# Altium footprint library PcbLib1.PcbLib: 12 footprints
Each footprint in its own frame and in the unit in brackets; x right, y up, seen from the top. Pads: shape width x height; smd on the part's side, far side on the other; paste and mask are expansions set on the pad; w line width, h text height; cw(c..) or ccw(c..) is an arc to the next point about the centre after c.
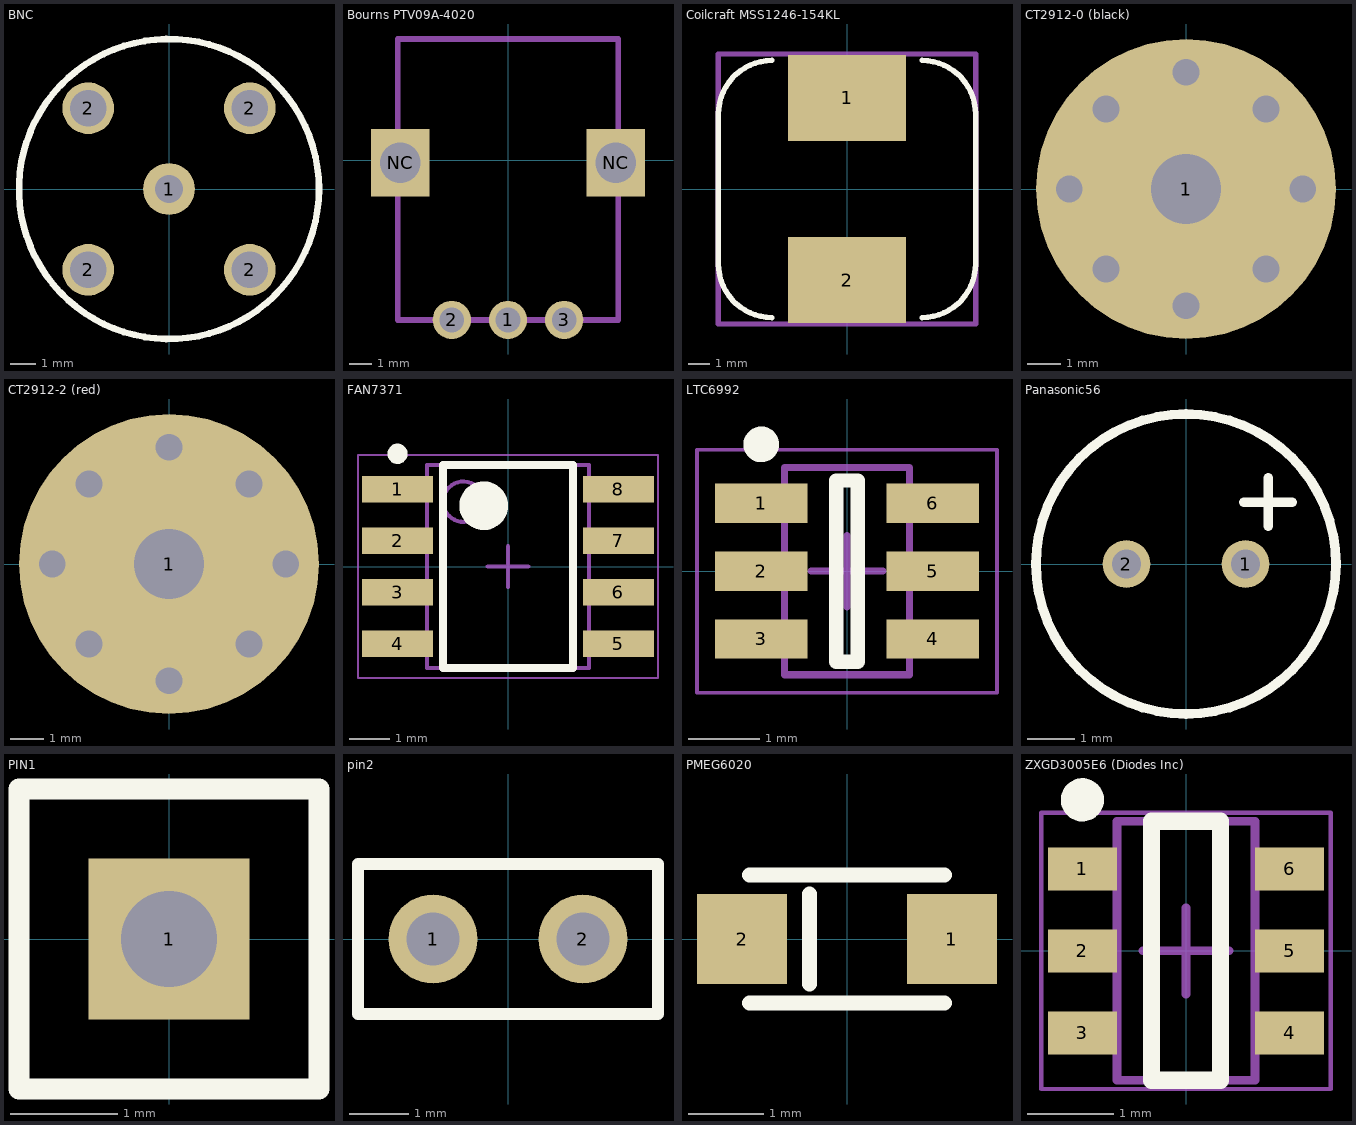
[diagram p0: the footprints below, top view; thin cyan lines are the x and y axes]

## BNC [mm] "BNC RS Pro female connector"
height 12
pads (5):
  round 2 hole 1.1: 1(0,0)
  round 2 hole 1.4: 2(-3.125,-3.125) 2(-3.125,3.125) 2(3.125,-3.125) 2(3.125,3.125)
Top Overlay:
  circle w0.254: c0,0 r5.8
3D body "bnc-generic-2.stp": height 11.5, standoff -3.99, extent -4.508,-3.772 4.509,3.772

## Bourns PTV09A-4020 [mm] "Potentiometer"
pads (5):
  round 1.7 hole 1.1: 1(0,-7.1) 2(-2.5,-7.1) 3(2.5,-7.1)
  rect 2.6x3 hole 1.8 square: NC(-4.8,-0.1) NC(4.8,-0.1)
Mechanical 15:
  lines w0.254: -4.9,-7.1 4.9,-7.1 4.9,5.4 -4.9,5.4 -4.9,-7.1
3D body "Bourns ptv09a-4x15f-xxxx.stp": height 15, standoff -3.99, extent -5.7,-7.15 5.7,5.5

## Coilcraft MSS1246-154KL [mm] "150uH low DCR inductor"
height 4.6
pads (2):
  rect 5.5x4 smd: 1(0,4.25) 2(0,-4.25)
Top Overlay:
  lines w0.254: -3.5,-6 cw(c-3.5,-3.5) -6,-3.5 -6,3.5 cw(c-3.5,3.5) -3.5,6 ; 3.5,-6 ccw(c3.5,-3.5) 6,-3.5 6,3.5 ccw(c3.5,3.5) 3.5,6
Mechanical 15:
  lines w0.254: -6,-6.3 6,-6.3 6,6.3 -6,6.3 -6,-6.3
3D body "Coilcraft-MSS1246.step": height 4.6, standoff -0.2, extent -6.1,-6.1 6.1,6.1

## CT2912-0 (black) [mm] "Banana Jack - Cal Test CT2912-0"
pads (1):
  round 9 hole 2.1: 1(0,0)
via 0,0 diameter 3.2 hole 2.1
via 0,3.5 diameter 1.2 hole 0.8
via -3.5,0 diameter 1.2 hole 0.8
via 0,-3.5 diameter 1.2 hole 0.8
via 3.5,0 diameter 1.2 hole 0.8
via -2.4,2.4 diameter 1.2 hole 0.8
via -2.4,-2.4 diameter 1.2 hole 0.8
via 2.4,-2.4 diameter 1.2 hole 0.8
via 2.4,2.4 diameter 1.2 hole 0.8
3D body "CT2912-0.STEP": height 24, standoff -11, extent -7.105,-7.105 7.105,7.105

## CT2912-2 (red) [mm] "Banana Jack - Cal Test CT2912-2"
pads (1):
  round 9 hole 2.1: 1(0,0)
via 2.4,2.4 diameter 1.2 hole 0.8
via 2.4,-2.4 diameter 1.2 hole 0.8
via -2.4,-2.4 diameter 1.2 hole 0.8
via -2.4,2.4 diameter 1.2 hole 0.8
via 3.5,0 diameter 1.2 hole 0.8
via 0,-3.5 diameter 1.2 hole 0.8
via -3.5,0 diameter 1.2 hole 0.8
via 0,3.5 diameter 1.2 hole 0.8
via 0,0 diameter 3.2 hole 2.1
3D body "CT2912-2.STEP": height 24, standoff -11, extent -7.105,-7.105 7.105,7.105

## FAN7371 [mm] "SOP, 8-Leads, Body 4.90x3.90mm, Pitch 1.27mm, IPC Medium Density"
height 1.75
pads (8):
  rect 1.75x0.65 smd: 1(-2.725,1.905) 2(-2.725,0.635) 3(-2.725,-0.635) 4(-2.725,-1.905) 5(2.725,-1.905) 6(2.725,-0.635) 7(2.725,0.635) 8(2.725,1.905)
Top Overlay:
  circle w0.6: c-0.6,1.5 r0.3
  circle w0.25: c-2.725,2.78 r0.125
  lines w0.2: -1.6,-2.5 1.6,-2.5 1.6,2.5 -1.6,2.5 -1.6,-2.5
Mechanical 13:
  circle w0.1: c-1.1,1.6 r0.5
  lines w0.1: -2,-2.5 2,-2.5 2,2.5 -2,2.5 -2,-2.5
Mechanical 15:
  lines w0.05: -3.7,-2.75 3.7,-2.75 3.7,2.75 -3.7,2.75 -3.7,-2.75
  lines w0.1: -0.5,0 0.5,0 ; 0,-0.5 0,0.5
3D body "FAN7371.step": height 1.75, standoff 0, extent -3,-2.5 3,2.5

## LTC6992 [mm] "TSOT23-N medium density"
pads (6):
  rect 1.3x0.55 smd: 1(-1.2,0.95) 2(-1.2,0) 3(-1.2,-0.95) 4(1.2,-0.95) 5(1.2,0) 6(1.2,0.95)
Top Overlay:
  circle w0.25: c-1.2,1.775 r0.125
  lines w0.2: -0.15,-1.27 0.15,-1.27 0.15,1.27 -0.15,1.27 -0.15,-1.27
Mechanical 13:
  lines w0.1: -0.875,-1.45 -0.875,1.45 0.875,1.45 0.875,-1.45 -0.875,-1.45
Mechanical 15:
  lines w0.05: -2.1,-1.7 -2.1,1.7 2.1,1.7 2.1,-1.7 -2.1,-1.7
  lines w0.1: -0.5,0 0.5,0 ; 0,-0.5 0,0.5
3D body: height 1, standoff 0.01, extent -0.875,-1.45 0.875,1.45

## Panasonic56 [mm] "Panasonic EEU-FM1H560"
height 11
pads (2):
  round 1 hole 0.6: 1(1.25,0) 2(-1.25,0)
Top Overlay:
  circle w0.2: c0,0 r3.15
  lines w0.2: 1.217,1.3 2.233,1.3 ; 1.725,0.792 1.725,1.808
3D body "cap_6x11x.STEP": height 11.01, standoff -3, extent -3.16,-3.15 3.15,3.15

## PIN1 [mm] "Connector; Plug"
pads (1):
  rect 1.5x1.5 hole 0.9: 1(0,0)
Top Overlay:
  lines w0.2: -1.4,-1.4 -1.4,1.4 1.4,1.4 1.4,-1.4 -1.4,-1.4
3D body "header_1_pin_TH.STEP": height 8.54, standoff -3, extent -1.27,-1.245 1.27,1.245

## pin2 [mm] "Connector; Header; 2 Position"
pads (2):
  round 1.5 hole 0.9: 1(-1.27,0) 2(1.27,0)
Top Overlay:
  lines w0.2: -2.54,-1.27 2.54,-1.27 2.54,1.27 -2.54,1.27 -2.54,-1.27
3D body "header_1_pin_TH.STEP": height 8.54, standoff -3, extent 0,-1.245 2.54,1.245
3D body "header_1_pin_TH.STEP": height 8.54, standoff -3, extent -2.54,-1.245 0,1.245

## PMEG6020 [mm]
pads (2):
  rect 1.2x1.2 smd: 1(1.4,0) 2(-1.4,0)
Top Overlay:
  lines w0.2: -1.3,-0.85 1.3,-0.85 ; -1.3,0.85 1.3,0.85 ; -0.5,-0.6 -0.5,0.6
3D body "SOD123W.step": height 1.1, standoff -0.01, extent -2,-0.95 2,0.95

## ZXGD3005E6 (Diodes Inc) [mm]
height 1.1
pads (6):
  rect 0.8x0.5 smd: 1(-1.2,0.95) 2(-1.2,0) 3(-1.2,-0.95) 4(1.2,-0.95) 5(1.2,0) 6(1.2,0.95)
Top Overlay:
  circle w0.25: c-1.2,1.75 r0.125
  lines w0.2: -0.4,-1.5 -0.4,1.5 0.4,1.5 0.4,-1.5 -0.4,-1.5
Mechanical 13:
  lines w0.1: -0.8,-1.5 0.8,-1.5 0.8,1.5 -0.8,1.5 -0.8,-1.5
Mechanical 15:
  lines w0.05: -1.675,-1.6 1.675,-1.6 1.675,1.6 -1.675,1.6 -1.675,-1.6
  lines w0.1: -0.5,0 0.5,0 ; 0,-0.5 0,0.5
3D body "ZXGD3005E6 (Diodes Inc).step": height 1.1, standoff 0, extent -1.4,-1.5 1.4,1.5